# EAGLE library part HT16D35A (library pimoroni-ics)
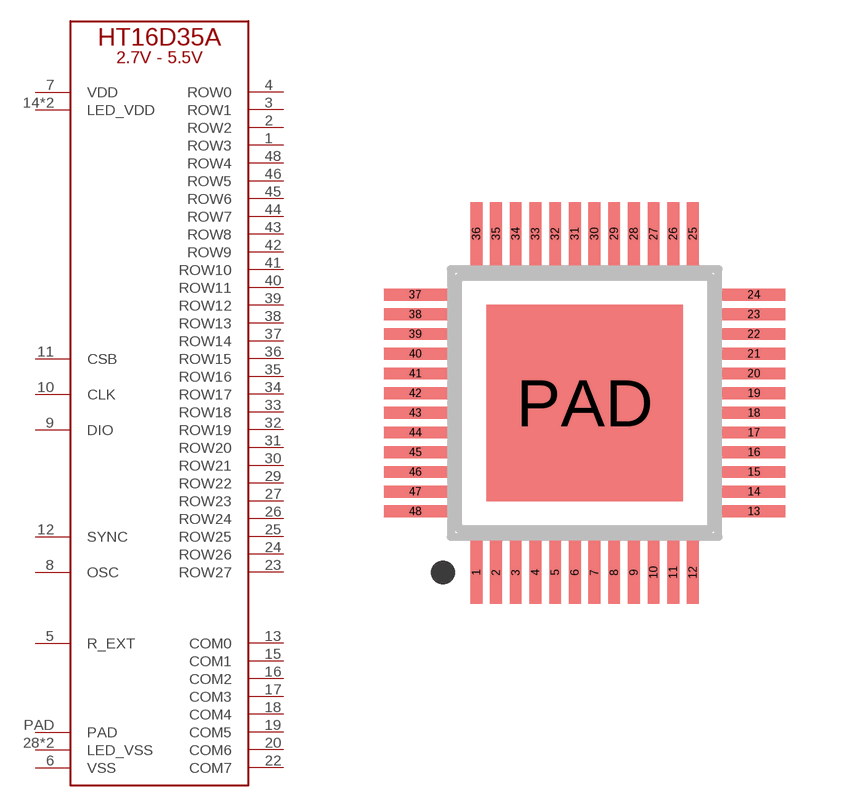
[diagram p109: symbol with the pads of TQFP-S-7X7-48-EP; footprint TQFP-S-7X7-48-EP]

Designator prefix U

## HT16D35A  [TQFP-S-7X7-48-EP]
1  ROW3
2  ROW2
3  ROW1
4  ROW0
5  R_EXT
6  VSS
7  VDD
8  OSC
9  DIO
10  CLK
11  CSB
12  SYNC
13  COM0
14  LED_VDD
15  COM1
16  COM2
17  COM3
18  COM4
19  COM5
20  COM6
21  LED_VDD
22  COM7
23  ROW27
24  ROW26
25  ROW25
26  ROW24
27  ROW23
28  LED_VSS
29  ROW22
30  ROW21
31  ROW20
32  ROW19
33  ROW18
34  ROW17
35  ROW16
36  ROW15
37  ROW14
38  ROW13
39  ROW12
40  ROW11
41  ROW10
42  ROW9
43  ROW8
44  ROW7
45  ROW6
46  ROW5
47  LED_VSS
48  ROW4
PAD  PAD

## Footprint TQFP-S-7X7-48-EP (pad centres in mm)
QFP48 shrink quad flat pack, square
smd 0.3 x 1.6: 1 -2.75,-4.3; 2 -2.25,-4.3; 3 -1.75,-4.3; 4 -1.25,-4.3; 5 -0.75,-4.3; 6 -0.25,-4.3; 7 0.25,-4.3; 8 0.75,-4.3; 9 1.25,-4.3; 10 1.75,-4.3; 11 2.25,-4.3; 12 2.75,-4.3; 25 2.75,4.3; 26 2.25,4.3; 27 1.75,4.3; 28 1.25,4.3; 29 0.75,4.3; 30 0.25,4.3; 31 -0.25,4.3; 32 -0.75,4.3; 33 -1.25,4.3; 34 -1.75,4.3; 35 -2.25,4.3; 36 -2.75,4.3
smd 1.6 x 0.3: 13 4.3,-2.75; 14 4.3,-2.25; 15 4.3,-1.75; 16 4.3,-1.25; 17 4.3,-0.75; 18 4.3,-0.25; 19 4.3,0.25; 20 4.3,0.75; 21 4.3,1.25; 22 4.3,1.75; 23 4.3,2.25; 24 4.3,2.75; 37 -4.3,2.75; 38 -4.3,2.25; 39 -4.3,1.75; 40 -4.3,1.25; 41 -4.3,0.75; 42 -4.3,0.25; 43 -4.3,-0.25; 44 -4.3,-0.75; 45 -4.3,-1.25; 46 -4.3,-1.75; 47 -4.3,-2.25; 48 -4.3,-2.75
smd 5 x 5: PAD 0,0